# Altium schematic symbol library NSR0240HT1G.SchLib: 1 symbol
Pins are listed as number, name and electrical type; pins without a type are passive.

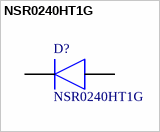
[diagram p0: symbol NSR0240HT1G]

## NSR0240HT1G
designator D?
SMT Schottky Diode, 40V dc 250mA, 3ns, 2-pin SOD-323; Manufacturer_Name: ON Semiconductor; Allied_Number: 70341267; Geometry.Height: 1.1mm; Manufacturer_Part_Number: NSR0240HT1G; RS Part Number: 7931024P; RS Price/Stock: http://uk.rs-online.com/web/p/products/7931024P; Allied Price/Stock: http://www.alliedelec.com/on-semiconductor-nsr0240ht1g/70341267/; Arrow Part Number: NSR0240HT1G; Arrow Price/Stock: https://www.arrow.com/en/products/nsr0240ht1g/on-semiconductor; Datasheet Link: http://www.onsemi.com/pub/Collateral/NSR0240H-D.PDF
footprint SOD2512X110N
pins: 1 K, 2 A